# Altium schematic symbol library NJM2746M.SchLib: 1 symbol
Pins are listed as number, name and electrical type; pins without a type are passive.

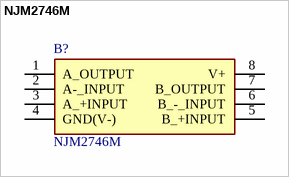
[diagram p0: symbol NJM2746M]

## NJM2746M
designator B?
Op Amp, 10MHz, 3  12 V, 8-Pin DMP; Manufacturer_Name: New Japan Radio; Geometry.Height: 2mm; Manufacturer_Part_Number: NJM2746M; Mouser Part Number: 513-NJM2746M; Mouser Price/Stock: https://www.mouser.co.uk/ProductDetail/NJR/NJM2746M?qs=Gh61b4mt6UKVBSM46CS%2FJQ%3D%3D; Arrow Part Number: *; Arrow Price/Stock: *; Datasheet Link: https://datasheet.datasheetarchive.com/originals/distributors/Datasheets-306/93116.pdf
footprint SOIC127P680X200-8N
pins: 1 A_OUTPUT, 2 A-_INPUT, 3 A_+INPUT, 4 GND(V-), 5 B_+INPUT, 6 B_-_INPUT, 7 B_OUTPUT, 8 V+